# EAGLE library part PINHD-3X4 (library pinhead-zmiany-JP)
PIN HEADER
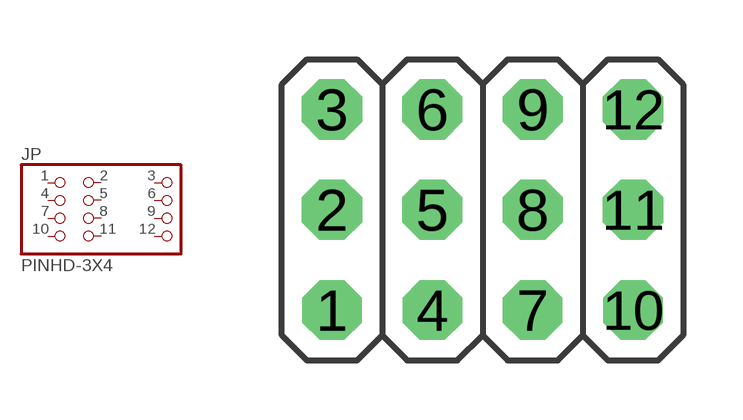
[diagram p44: symbol with the pads of 3X04; footprint 3X04]

Designator prefix JP

## PINHD-3X4  [3X04]
1  1  pas
2  2  pas
3  3  pas
4  4  pas
5  5  pas
6  6  pas
7  7  pas
8  8  pas
9  9  pas
10  10  pas
11  11  pas
12  12  pas

## Footprint 3X04 (pad centres in mm)
PIN HEADER
drill 1 octagon: 1 -3.81,-3.81; 4 -1.27,-3.81; 7 1.27,-3.81; 10 3.81,-3.81
drill 1.016 octagon: 2 -3.81,-1.27; 3 -3.81,1.27; 5 -1.27,-1.27; 6 -1.27,1.27; 8 1.27,-1.27; 9 1.27,1.27; 11 3.81,-1.27; 12 3.81,1.27